# Altium schematic symbol library Adams Altium Library.SchLib: 126 symbols
Pins are listed as number, name and electrical type; pins without a type are passive.

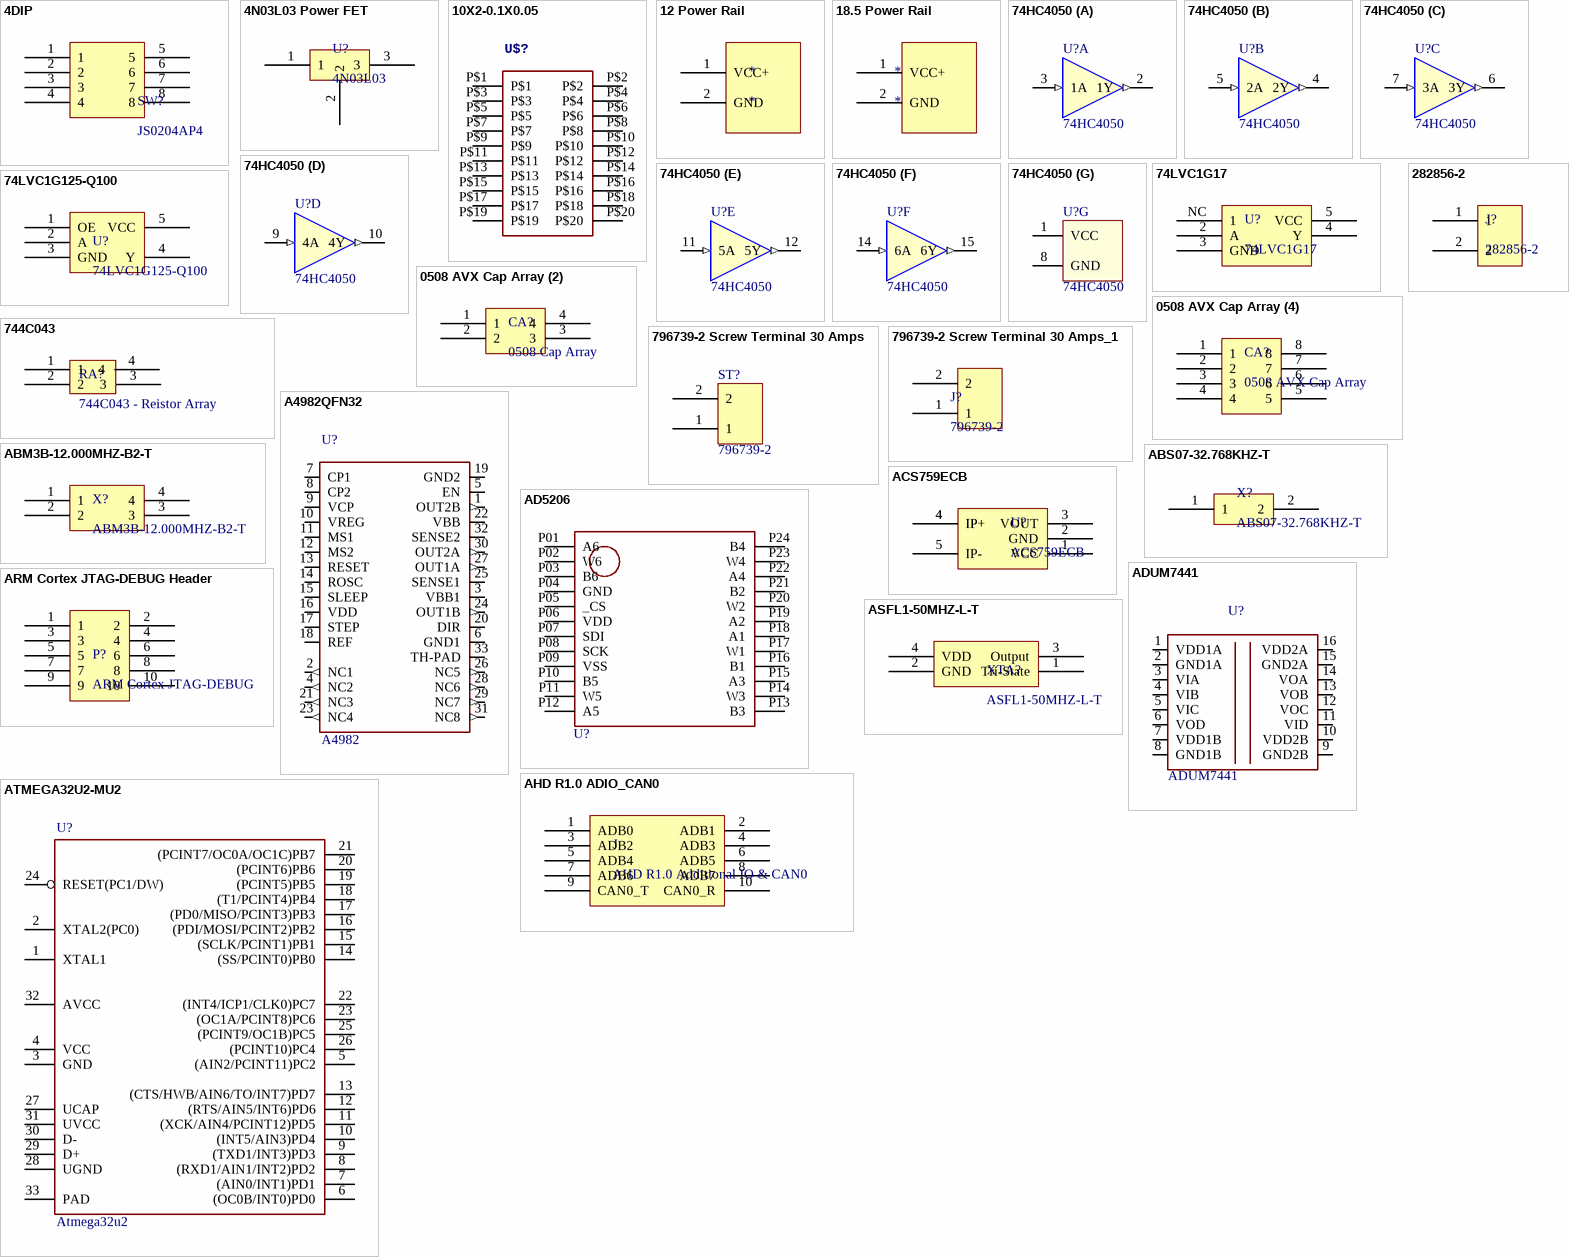
[diagram p0: symbols 4DIP to ATMEGA32U2-MU2]

## 4DIP
designator SW?, comment JS0204AP4
footprint JS0204AP4 (4DIP)
pins: 1, 2, 3, 4, 5, 6, 7, 8

## 4N03L03 Power FET
designator U?, comment 4N03L03
Power FET
footprint IPB04N03LA (Power-Transistor)
pins: 1, 2, 3

## 10X2-0.1X0.05
designator U$?
LastRevisionNote: ImportComponents; Published: 23-Apr-2014; Publisher: UltiMachine; LastRevisionDate: 23-Apr-2014
footprint 10X2-0.05X0.1
pins: P$1, P$2, P$3, P$4, P$5, P$6, P$7, P$8, P$9, P$10, P$11, P$12, P$13, P$14, P$15, P$16, P$17, P$18, P$19, P$20

## 12 Power Rail
designator *
footprint Power Rail 12
pins: 1 VCC+, 2 GND

## 18.5 Power Rail
designator *
footprint Power Rail Pad (Custom pad for WAVE power rails)
pins: 1 VCC+, 2 GND

## 74HC4050
designator U?
footprint TSOP65P640X120-16N (TSOP, 16-Leads, Body 5.00x4.40mm, Pitch 0.65mm, IPC Medium Density)
part A pins: 2 1Y (out), 3 1A (in)
part B pins: 4 2Y (out), 5 2A (in)
part C pins: 6 3Y (out), 7 3A (in)
part D pins: 9 4A (in), 10 4Y (out)
part E pins: 11 5A (in), 12 5Y (out)
part F pins: 14 6A (in), 15 6Y (out)
part G pins: 1 VCC (power), 8 GND (power)

## 74LVC1G17
designator U?
footprint 74LVC1G17
pins: 2 A, 3 GND, 4 Y, 5 VCC, NC 1

## 74LVC1G125-Q100
designator U?
footprint 74LVC1G125-Q100 (Line Driver Buffer)
pins: 1 OE, 2 A, 3 GND, 4 Y, 5 VCC

## 0508 AVX Cap Array (2)
designator CA?, comment 0508 Cap Array
footprint 0508 AVX (2) Cap Array (Capacator Array 0508)
pins: 1, 2, 3, 4

## 0508 AVX Cap Array (4)
designator CA?, comment 0508 AVX Cap Array
Capacitor Array
footprint 0508 Cap Array (4) (Capacitor Array)
pins: 1, 2, 3, 4, 5, 6, 7, 8

## 744C043
designator RA?, comment 744C043 - Reistor Array
Resistor Array
footprint 744C0403 (Resistor Array)
pins: 1, 2, 3, 4

## 282856-2
designator J?
Two pole screw terminal
footprint 282856-2 (Screw Terminal  two pole)
pins: 1, 2

## 796739-2 Screw Terminal 30 Amps
designator ST?, comment 796739-2
footprint 796739-2 (796739-2 30Amp Screw Terminal block)
pins: 1, 2

## 796739-2 Screw Terminal 30 Amps_1
designator J?, comment 796739-2
footprint 796739-2 (796739-2 30Amp Screw Terminal block)
pins: 1, 2

## A4982QFN32
designator U?, comment A4982
Stepper Driver - Fully Integrated, Control and Power Stage; Manufacturer: Allegro; ManufacturerPartNumber: A4982SETTR-T; LastRevisionNote: ImportComponents; Published: 23-Apr-2014; Publisher: UltiMachine; LastRevisionDate: 23-Apr-2014; ComponentLink1Description: Datasheet for A4982; ComponentLink1URL: http://www.allegromicro.com/en/Products/Part_Numbers/4982/4982.pdf; Supplier 1: Digi-Key; Supplier Part Number 1: 620-1340-2-ND
footprint QFN32TROUND
pins: 1 OUT2B (out), 2 NC1 (out), 3 VBB1 (power), 4 NC2 (out), 5 EN, 6 GND1 (power), 7 CP1, 8 CP2, 9 VCP, 10 VREG, 11 MS1, 12 MS2, 13 RESET, 14 ROSC, 15 SLEEP, 16 VDD (power), 17 STEP, 18 REF, 19 GND2 (power), 20 DIR, 21 NC3 (out), 22 VBB (power), 23 NC4 (out), 24 OUT1B (out), 25 SENSE1, 26 NC5 (out), 27 OUT1A (out), 28 NC6 (out), 29 NC7 (out), 30 OUT2A (out), 31 NC8 (out), 32 SENSE2, 33 TH-PAD (power)

## ABM3B-12.000MHZ-B2-T
designator X?
footprint ABM3B-12.000MHZ-B2-T (ABM3B-12.000MHZ-B2-T 12MHZ Crystam Oscillator)
pins: 1, 2, 3, 4

## ABS07-32.768KHZ-T
designator X?
ABS07-32.768KHZ-T RTC Crystal Oscillator
footprint ABS07-32.768KHZ-T (ABS07-32.768KHZ-T Crystal Oscillator)
pins: 1, 2

## ACS759ECB
designator U?
footprint ACS759ECB Round Holes (Current Sensor)
pins: 1 VCC, 2 GND, 3 VOUT, 4 IP+ hidden, 4 IP+, 5 IP-

## AD5206
designator U?  (value not drawn)
6ch Digipot; Manufacturer: Analog Devices; ManufacturerPartNumber: AD5206BRUZ10-RL7; LastRevisionNote: ImportComponents; Published: 23-Apr-2014; Publisher: UltiMachine; LastRevisionDate: 23-Apr-2014; ComponentLink1Description: Datasheet for AD5206; ComponentLink1URL: http://www.analog.com/static/imported-files/data_sheets/AD5204_5206.pdf
footprint TSSOP24
pins: P01 A6, P02 W6, P03 B6, P04 GND, P05 _CS, P06 VDD, P07 SDI, P08 SCK, P09 VSS, P10 B5, P11 W5, P12 A5, P13 B3, P14 W3, P15 A3, P16 B1, P17 W1, P18 A1, P19 A2, P20 W2, P21 B2, P22 A4, P23 W4, P24 B4

## ADUM7441
designator U?
4ch iCoupler; LastRevisionNote: ImportComponents; Published: 23-Apr-2014; Publisher: UltiMachine; LastRevisionDate: 23-Apr-2014
footprint QSOP16
pins: 1 VDD1A, 2 GND1A, 3 VIA, 4 VIB, 5 VIC, 6 VOD, 7 VDD1B, 8 GND1B, 9 GND2B, 10 VDD2B, 11 VID, 12 VOC, 13 VOB, 14 VOA, 15 GND2A, 16 VDD2A

## AHD R1.0 ADIO_CAN0
designator J, comment AHD R1.0 Additional IO & CAN0
AHD R1.0 Additional Digital IO & CAN0 Breakout
footprint HDR2X5
pins: 1 ADB0, 2 ADB1, 3 ADB2, 4 ADB3, 5 ADB4, 6 ADB5, 7 ADB6, 8 ADB7, 9 CAN0_T, 10 CAN0_R

## ARM Cortex JTAG-DEBUG Header
designator P?, comment ARM Cortex JTAG-DEBUG
footprint FTSH-105-XX-X-DV (1.27mm pitch, 10 pin, terminal strip; vertical, SMT)
pins: 1, 2, 3, 4, 5, 6, 7, 8, 9, 10

## ASFL1-50MHZ-L-T
designator XTA?
footprint ASFL1-50MHZ-L-T (Abracon ASFL1-50MHZ-L-T 50MHZ Crystal Oscillator)
pins: 1 Tri-State, 2 GND, 3 Output, 4 VDD

## ATMEGA32U2-MU2
designator U?, comment Atmega32u2
LastRevisionNote: ImportComponents; Published: 23-Apr-2014; Publisher: UltiMachine; LastRevisionDate: 23-Apr-2014; Supplier 1: Digi-Key; Supplier Part Number 1: ATMEGA32U2-MURTR-ND
footprint QFN32TROUND
pins: 1 XTAL1, 2 XTAL2(PC0), 3 GND (power), 4 VCC (power), 5 (AIN2/PCINT11)PC2, 6 (OC0B/INT0)PD0, 7 (AIN0/INT1)PD1, 8 (RXD1/AIN1/INT2)PD2, 9 (TXD1/INT3)PD3, 10 (INT5/AIN3)PD4, 11 (XCK/AIN4/PCINT12)PD5, 12 (RTS/AIN5/INT6)PD6, 13 (CTS/HWB/AIN6/TO/INT7)PD7, 14 (SS/PCINT0)PB0, 15 (SCLK/PCINT1)PB1, 16 (PDI/MOSI/PCINT2)PB2, 17 (PD0/MISO/PCINT3)PB3, 18 (T1/PCINT4)PB4, 19 (PCINT5)PB5, 20 (PCINT6)PB6, 21 (PCINT7/OC0A/OC1C)PB7, 22 (INT4/ICP1/CLK0)PC7, 23 (OC1A/PCINT8)PC6, 24 RESET(PC1/DW), 25 (PCINT9/OC1B)PC5, 26 (PCINT10)PC4, 27 UCAP, 28 UGND (power), 29 D+, 30 D-, 31 UVCC (power), 32 AVCC (power), 33 PAD (power)

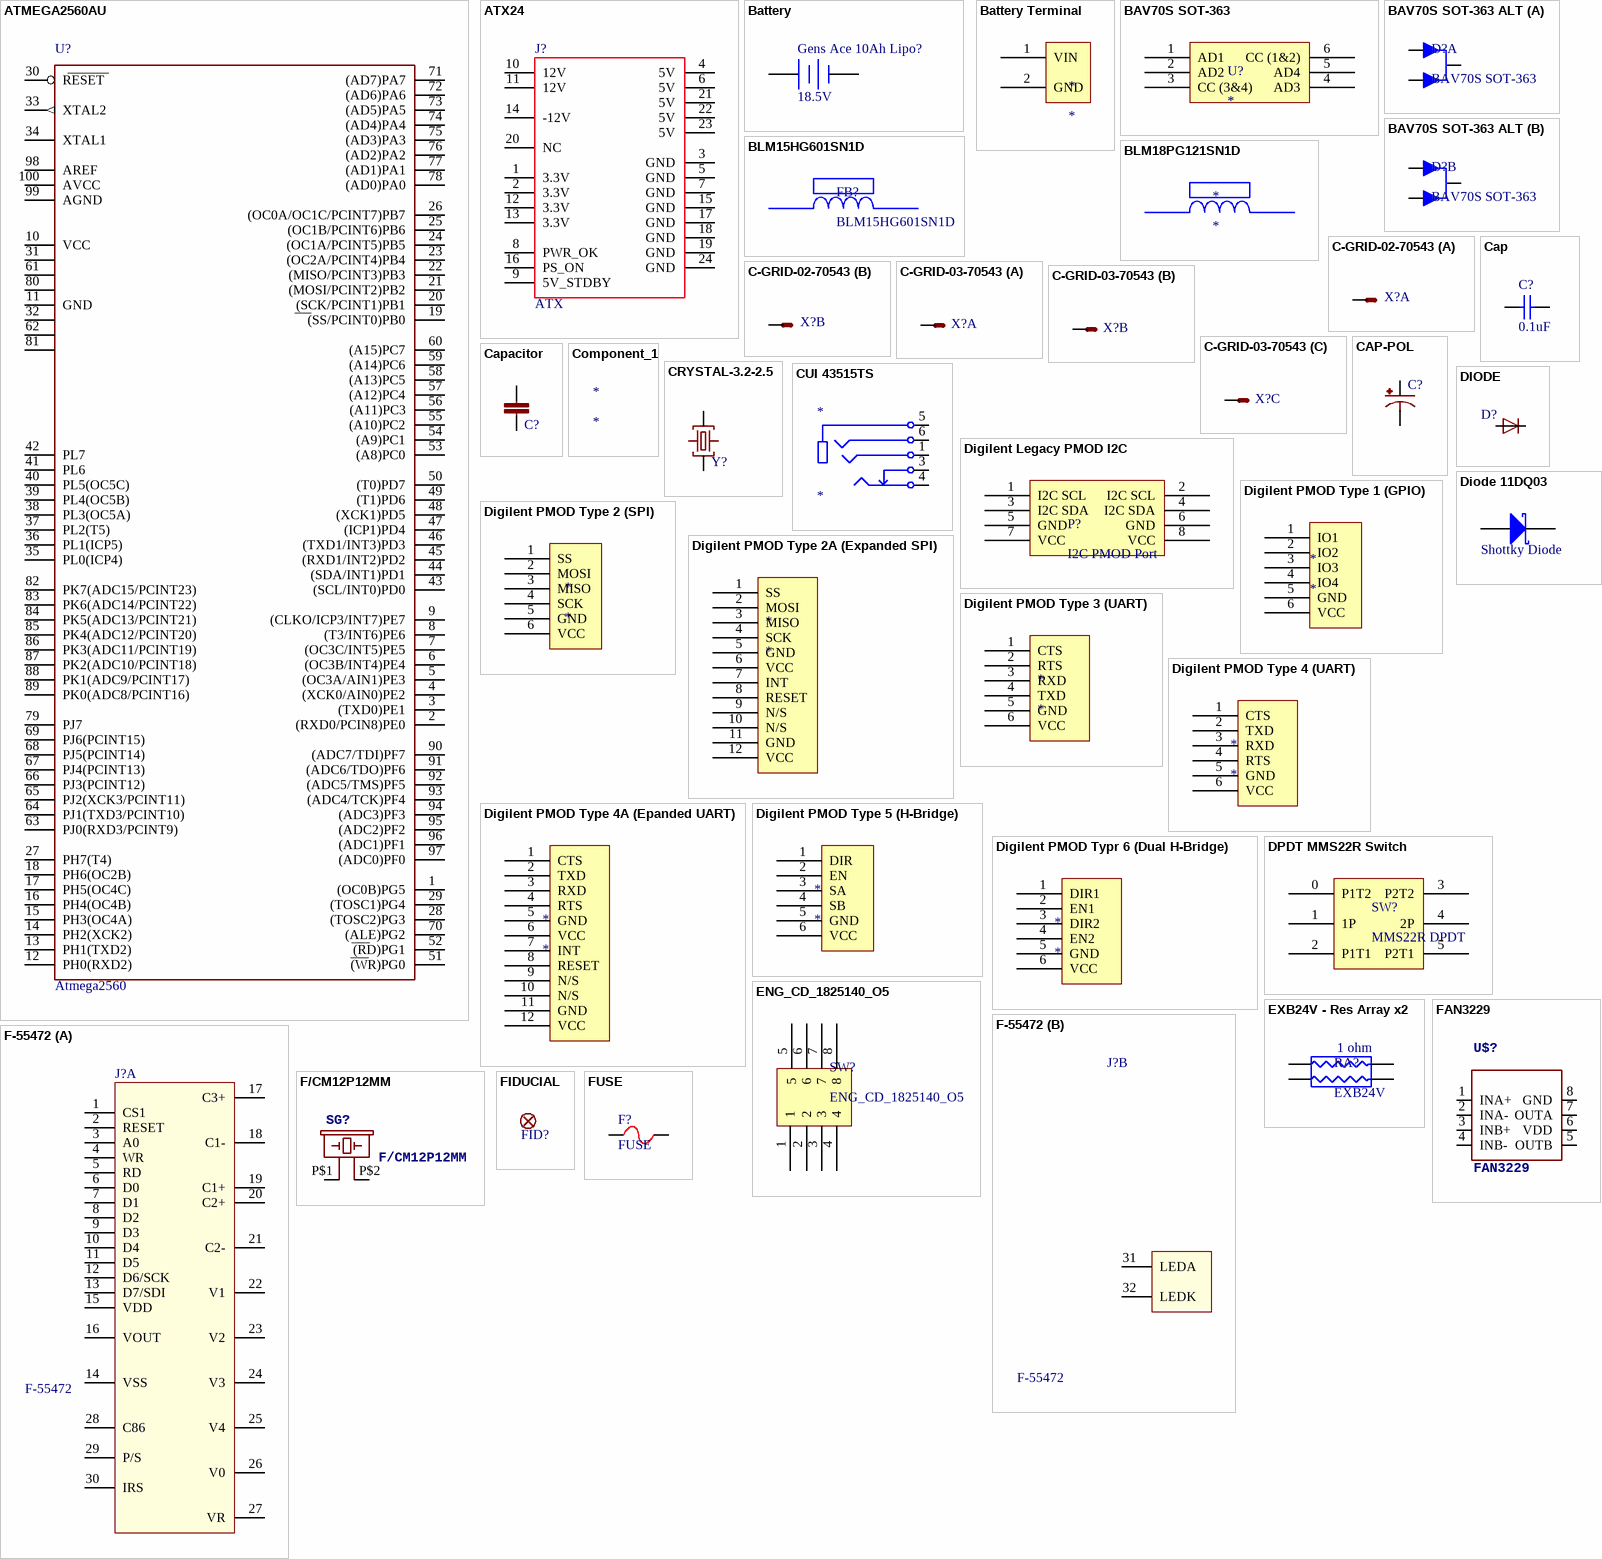
[diagram p1: symbols ATMEGA2560AU to FUSE]

## ATMEGA2560AU
designator U?, comment Atmega2560
LastRevisionNote: ImportComponents; Published: 23-Apr-2014; Publisher: UltiMachine; LastRevisionDate: 23-Apr-2014; Supplier 1: Digi-Key; Supplier Part Number 1: ATMEGA2560-16AURTR-ND
footprint TQFP100
pins: 1 (OC0B)PG5, 2 (RXD0/PCIN8)PE0, 3 (TXD0)PE1, 4 (XCK0/AIN0)PE2, 5 (OC3A/AIN1)PE3, 6 (OC3B/INT4)PE4, 7 (OC3C/INT5)PE5, 8 (T3/INT6)PE6, 9 (CLKO/ICP3/INT7)PE7, 10 VCC (power), 11 GND (power), 12 PH0(RXD2), 13 PH1(TXD2), 14 PH2(XCK2), 15 PH3(OC4A), 16 PH4(OC4B), 17 PH5(OC4C), 18 PH6(OC2B), 19 (SS/PCINT0)PB0, 20 (SCK/PCINT1)PB1, 21 (MOSI/PCINT2)PB2, 22 (MISO/PCINT3)PB3, 23 (OC2A/PCINT4)PB4, 24 (OC1A/PCINT5)PB5, 25 (OC1B/PCINT6)PB6, 26 (OC0A/OC1C/PCINT7)PB7, 27 PH7(T4), 28 (TOSC2)PG3, 29 (TOSC1)PG4, 30 RESET, 31 VCC1 (power), 32 GND1 (power), 33 XTAL2 (out), 34 XTAL1, 35 PL0(ICP4), 36 PL1(ICP5), 37 PL2(T5), 38 PL3(OC5A), 39 PL4(OC5B), 40 PL5(OC5C), 41 PL6, 42 PL7, 43 (SCL/INT0)PD0, 44 (SDA/INT1)PD1, 45 (RXD1/INT2)PD2, 46 (TXD1/INT3)PD3, 47 (ICP1)PD4, 48 (XCK1)PD5, 49 (T1)PD6, 50 (T0)PD7, 51 (WR)PG0, 52 (RD)PG1, 53 (A8)PC0, 54 (A9)PC1, 55 (A10)PC2, 56 (A11)PC3, 57 (A12)PC4, 58 (A13)PC5, 59 (A14)PC6, 60 (A15)PC7, 61 VCC2 (power), 62 GND2 (power), 63 PJ0(RXD3/PCINT9), 64 PJ1(TXD3/PCINT10), 65 PJ2(XCK3/PCINT11), 66 PJ3(PCINT12), 67 PJ4(PCINT13), 68 PJ5(PCINT14), 69 PJ6(PCINT15), 70 (ALE)PG2, 71 (AD7)PA7, 72 (AD6)PA6, 73 (AD5)PA5, 74 (AD4)PA4, 75 (AD3)PA3, 76 (AD2)PA2, 77 (AD1)PA1, 78 (AD0)PA0, 79 PJ7, 80 VCC3 (power), 81 GND3 (power), 82 PK7(ADC15/PCINT23), 83 PK6(ADC14/PCINT22), 84 PK5(ADC13/PCINT21), 85 PK4(ADC12/PCINT20), 86 PK3(ADC11/PCINT19), 87 PK2(ADC10/PCINT18), 88 PK1(ADC9/PCINT17), 89 PK0(ADC8/PCINT16), 90 (ADC7/TDI)PF7, 91 (ADC6/TDO)PF6, 92 (ADC5/TMS)PF5, 93 (ADC4/TCK)PF4, 94 (ADC3)PF3, 95 (ADC2)PF2, 96 (ADC1)PF1, 97 (ADC0)PF0, 98 AREF, 99 AGND (power), 100 AVCC (power)

## ATX24
designator J?, comment ATX
footprint ATX24
pins: 1 3.3V (power), 2 3.3V (power), 3 GND (power), 4 5V (power), 5 GND (power), 6 5V (power), 7 GND (power), 8 PWR_OK (power), 9 5V_STDBY (power), 10 12V (power), 11 12V (power), 12 3.3V (power), 13 3.3V (power), 14 -12V (power), 15 GND (power), 16 PS_ON (power), 17 GND (power), 18 GND (power), 19 GND (power), 20 NC (power), 21 5V (power), 22 5V (power), 23 5V (power), 24 GND (power)

## Battery
designator Gens Ace 10Ah Lipo?, comment 18.5V
Multicell Battery; Published: 24-Mar-1999; LatestRevisionDate: 17-Jul-2002; LatestRevisionNote: Re-released for DXP Platform.; PackageReference: BAT-2; Publisher: Altium Limited; PackageDescription: Battery; 2 Leads
footprint BAT-2 (Battery; 2 Leads)
pins: 1 +, 2 -

## Battery Terminal
designator *
footprint Battery Terminal (Custom batery Terminal)
pins: 1 VIN, 2 GND

## BAV70S SOT-363
designator U?
footprint BAV70S_SOT363 (SOT23, 6-Leads, Body 2.2x2.2mm (max), Pitch 0.65mm, IPC Medium Density)
pins: 1 AD1 "Anode (Diode 1)", 2 AD2 "Anode (Diode 2)", 3 CC (3&4) "Common Cathode 1 & 2", 4 AD3 "Anode Diode 3", 5 AD4 "Anode Diode 4", 6 CC (1&2) "Common Cathode 3&4"

## BAV70S SOT-363 ALT
designator D?, comment BAV70S SOT-363
footprint BAV70S_SOT363 (SOT23, 6-Leads, Body 2.2x2.2mm (max), Pitch 0.65mm, IPC Medium Density)
part A pins: 1 AD1 "Anode (Diode 1)", 2 AD2 "Anode (Diode 2)", 6 CC (1&2) "Common Cathode 3&4"
part B pins: 3 CC (3&4) "Common Cathode 1 & 2", 4 AD3 "Anode Diode 3", 5 AD4 "Anode Diode 4"

## BLM15HG601SN1D
designator FB?
footprint BLM18PG121SN1D (Chip Inductor, 2-Leads, Body 1.0x0.5mm, IPC Medium Density)
pins: 1, 2

## BLM18PG121SN1D
designator *
footprint BLM18PG121SN1D (Chip Inductor, 2-Leads, Body 1.0x0.5mm, IPC Medium Density)
pins: 1, 2

## C-GRID-02-70543
designator X?
Connector 2pos; LastRevisionNote: ImportComponents; Published: 23-Apr-2014; Publisher: UltiMachine; LastRevisionDate: 23-Apr-2014
footprint 70543-02
part A pins: 2 S
part B pins: 1 S

## C-GRID-03-70543
designator X?
Connector 2pos 2.54mm locking; LastRevisionNote: ImportComponents; Published: 23-Apr-2014; Publisher: UltiMachine; LastRevisionDate: 23-Apr-2014
footprint 70543-03
part A pins: 1 S
part B pins: 2 S
part C pins: 3 S

## Cap
designator C?  value 0.1uF
Capacitor; Published: 8-Jun-2000; LatestRevisionDate: 17-Jul-2002; LatestRevisionNote: Re-released for DXP Platform.; PackageReference: RAD-0.3; Publisher: Altium Limited; PackageDescription: Radial Cap, Thru-Hole; 2 Leads; 0.3 in Pin Spacing
footprint RAD-0.3 (Radial Cap, Thru-Hole; 2 Leads; 0.3 in Pin Spacing)
simulation model CAP (Capacitor)
signal-integrity model Cap
pins: 1, 2

## CAP-POL
designator C?
Capacitor Polarized; LastRevisionNote: ImportComponents; Published: 23-Apr-2014; Publisher: UltiMachine; LastRevisionDate: 23-Apr-2014
footprint C12,5-5
footprint E3,5-8
footprint C1206Tantalum (Chip Capacitor, 2-Leads, Body 3.20x1.60mm, IPC Medium Density)
pins: 1 +, 2 -

## Capacitor
designator C?
Capacitor Non Polarized; LastRevisionNote: ImportComponents; Published: 23-Apr-2014; Publisher: UltiMachine; LastRevisionDate: 23-Apr-2014
footprint C0402
footprint C0603
footprint C0805
footprint C1210K
signal-integrity model Model Name (Model Description)
simulation model Model Name (Model Description)
footprint C2220K
pins: 1, 2

## Component_1
designator *

## CRYSTAL-3.2-2.5
designator Y?
LastRevisionNote: ImportComponents; Published: 23-Apr-2014; Publisher: UltiMachine; LastRevisionDate: 23-Apr-2014
footprint CRYSTAL-3.2-2.5
pins: 1 C1, 2 GND, 3 C2, 4 GND

## CUI 43515TS
designator *
footprint CUI SJ-43515TS
pins: 1 R1, 3 TS, 4 TIP, 5 SLEEVE, 6 R2

## Digilent Legacy PMOD I2C
designator P?, comment I2C PMOD Port
pins: 1 I2C SCL, 2 I2C SCL, 3 I2C SDA, 4 I2C SDA, 5 GND, 6 GND, 7 VCC, 8 VCC

## Digilent PMOD Type 1 (GPIO)
designator *
footprint 1X6 2.54mm PMOD - Peripheral & HOST
pins: 1 IO1, 2 IO2, 3 IO3, 4 IO4, 5 GND, 6 VCC

## Digilent PMOD Type 2 (SPI)
designator *
footprint 1X6 2.54mm PMOD - Peripheral & HOST
pins: 1 SS, 2 MOSI, 3 MISO, 4 SCK, 5 GND, 6 VCC

## Digilent PMOD Type 2A (Expanded SPI)
designator *
footprint 2X6 2.54mm PMOD - HOST
footprint 2X6 2.54mm PMOD - Peripheral
pins: 1 SS, 2 MOSI, 3 MISO, 4 SCK, 5 GND, 6 VCC, 7 INT, 8 RESET, 9 N/S, 10 N/S, 11 GND, 12 VCC

## Digilent PMOD Type 3 (UART)
designator *
footprint 1X6 2.54mm PMOD - Peripheral & HOST
pins: 1 CTS, 2 RTS, 3 RXD, 4 TXD, 5 GND, 6 VCC

## Digilent PMOD Type 4 (UART)
designator *
footprint 1X6 2.54mm PMOD - Peripheral & HOST
pins: 1 CTS, 2 TXD, 3 RXD, 4 RTS, 5 GND, 6 VCC

## Digilent PMOD Type 4A (Epanded UART)
designator *
footprint 2X6 2.54mm PMOD - HOST
footprint 2X6 2.54mm PMOD - Peripheral
pins: 1 CTS, 2 TXD, 3 RXD, 4 RTS, 5 GND, 6 VCC, 7 INT, 8 RESET, 9 N/S, 10 N/S, 11 GND, 12 VCC

## Digilent PMOD Type 5 (H-Bridge)
designator *
footprint 1X6 2.54mm PMOD - Peripheral & HOST
pins: 1 DIR, 2 EN, 3 SA, 4 SB, 5 GND, 6 VCC

## Digilent PMOD Typr 6 (Dual H-Bridge)
designator *
footprint 1X6 2.54mm PMOD - Peripheral & HOST
pins: 1 DIR1, 2 EN1, 3 DIR2, 4 EN2, 5 GND, 6 VCC

## DIODE
designator D?
DIODE; LastRevisionNote: ImportComponents; Published: 23-Apr-2014; Publisher: UltiMachine; LastRevisionDate: 23-Apr-2014
footprint DO-214AB
footprint SOD523
pins: A, C

## Diode 11DQ03
designator D?, comment Shottky Diode
Schottky Rectifier; Published: 8-Jun-2000; LatestRevisionDate: 17-Jul-2002; LatestRevisionNote: Re-released for DXP Platform.; DatasheetVersion: Dec-1997; PackageReference: DO-204AL; Publisher: Altium Limited; PackageDescription: Diode, Axial; Body 5.2 x 2.7 mm (LxDia. max), Lead Dia. 0.86 mm (max); Code_JEDEC: DO-204-AL; ComponentLink1Description: Manufacturer Link; ComponentLink1URL: http://www.irf.com/; ComponentLink2Description: Datasheet; ComponentLink2URL: http://www.irf.com/product-info/datasheets/data/11dq03.pdf
footprint DO-204AL (Diode, Axial; Body 5.2 x 2.7 mm (LxDia. max), Lead Dia. 0.86 mm (max))
simulation model 11DQ03 (DIODE)
pins: 1 A, 2 K

## DPDT MMS22R Switch
designator SW?, comment MMS22R DPDT
Double Pole Double Throw
footprint DPDT Switch (MMS22R)
pins: 0 P1T2, 1 1P, 2 P1T1, 3 P2T2, 4 2P, 5 P2T1

## ENG_CD_1825140_O5
designator SW?
4 Dip Siwtch
footprint ENG_CD_1825140_O5 (4 DIP)
pins: 1, 2, 3, 4, 5, 6, 7, 8

## EXB24V - Res Array x2
designator RA?, comment EXB24V  value 1 ohm
footprint EXB24V - Res Array x2 (Panasonic Resistor Array)
pins: 1, 2, 3, 4

## F-55472
designator J?
part A pins: 1 CS1 (power), 2 RESET (power), 3 A0 (power), 4 WR (power), 5 RD (power), 6 D0 (power), 7 D1 (power), 8 D2 (power), 9 D3 (power), 10 D4 (power), 11 D5 (power), 12 D6/SCK (power), 13 D7/SDI (power), 14 VSS (power), 15 VDD (power), 16 VOUT (power), 17 C3+ (power), 18 C1- (power), 19 C1+ (power), 20 C2+ (power), 21 C2- (power), 22 V1 (power), 23 V2 (power), 24 V3 (power), 25 V4 (power), 26 V0 (power), 27 VR (power), 28 C86 (power), 29 P/S (power), 30 IRS (power)
part B pins: 31 LEDA (power), 32 LEDK (power)

## F/CM12P12MM
designator SG?
BUZZER; LastRevisionNote: ImportComponents; Published: 23-Apr-2014; Publisher: UltiMachine; LastRevisionDate: 23-Apr-2014
footprint BUZZER-12MM
pins: P$1 1, P$2 2

## FAN3229
designator U$?
LastRevisionNote: ImportComponents; Published: 23-Apr-2014; Publisher: UltiMachine; LastRevisionDate: 23-Apr-2014
footprint SOIC8
pins: 1 INA+, 2 INA-, 3 INB+, 4 INB-, 5 OUTB, 6 VDD, 7 OUTA, 8 GND

## FIDUCIAL
designator FID?
Fiducial; LastRevisionNote: ImportComponents; Published: 23-Apr-2014; Publisher: UltiMachine; LastRevisionDate: 23-Apr-2014
footprint FIDUCIAL-1X2

## FUSE
designator F?
LastRevisionNote: ImportComponents; Published: 23-Apr-2014; Publisher: UltiMachine; LastRevisionDate: 23-Apr-2014
footprint 3522-2
footprint F1210_M (Bournes PTC Fuse)
pins: 1, 2

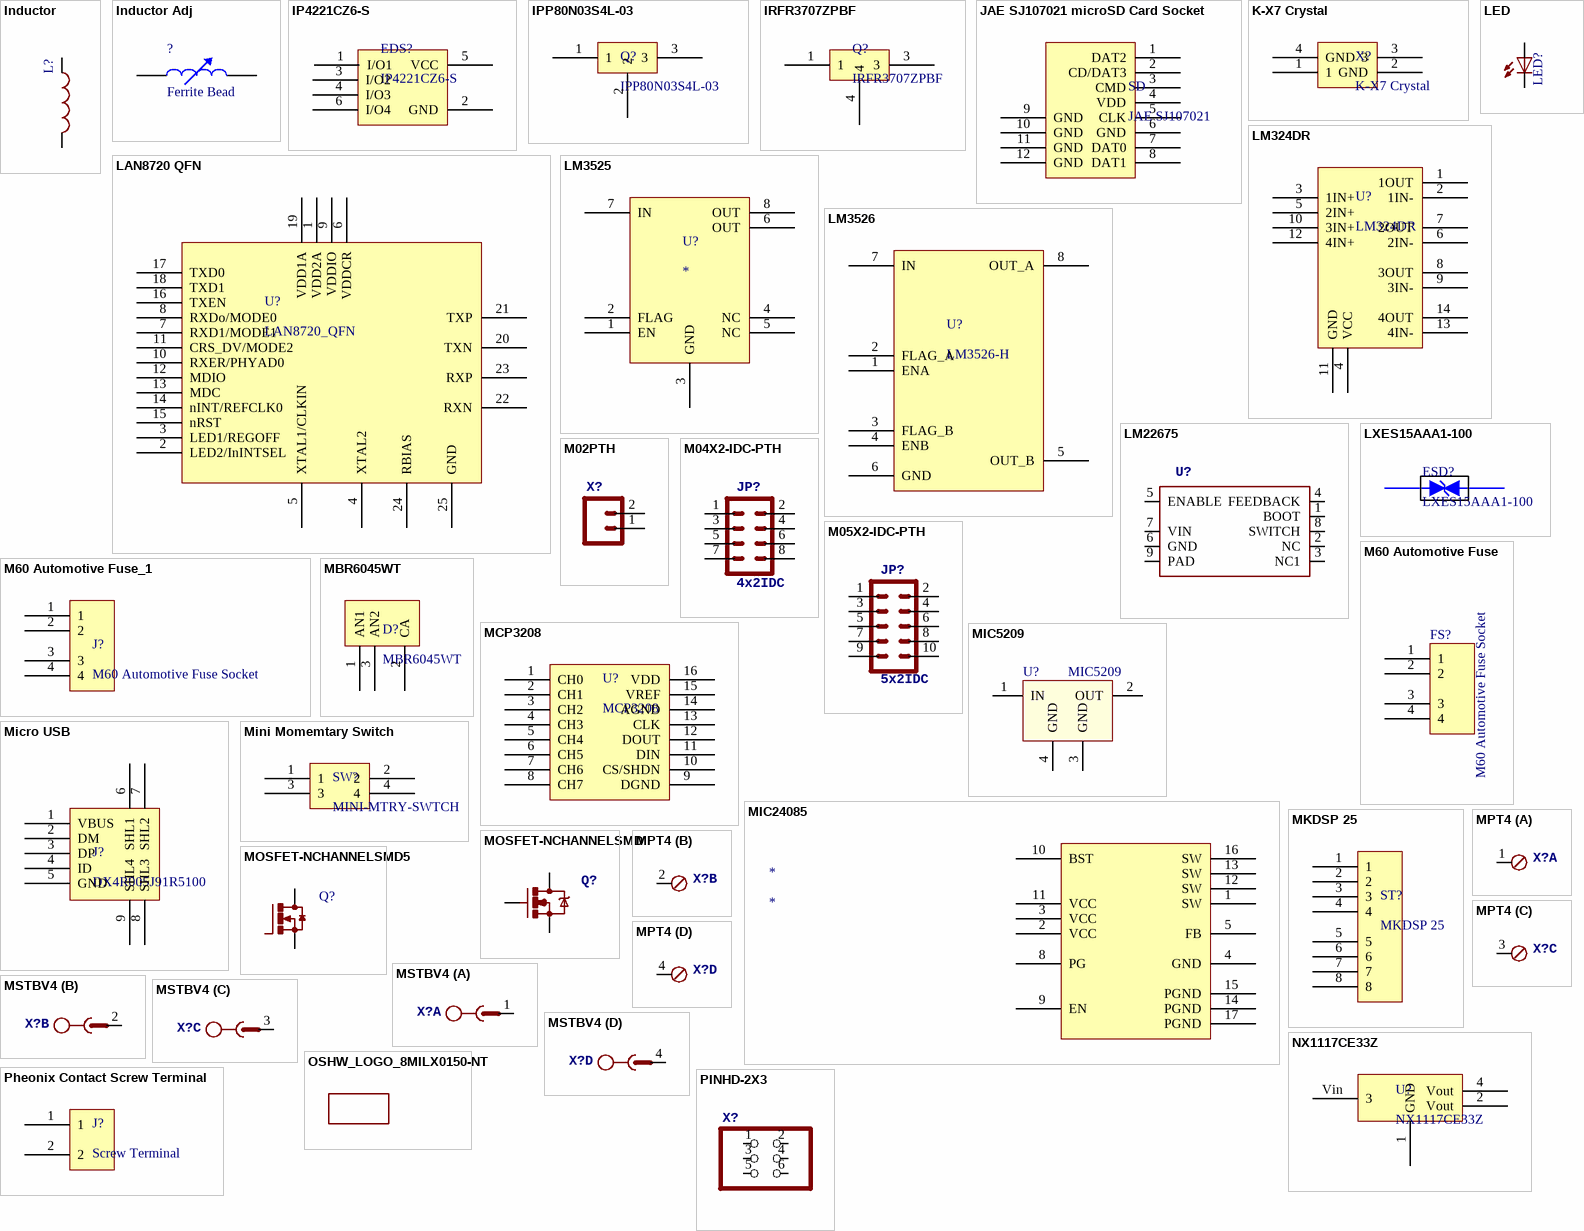
[diagram p2: symbols Inductor to PINHD-2X3]

## Inductor
designator L?
Inductor; LastRevisionNote: ImportComponents; Published: 23-Apr-2014; Publisher: UltiMachine; LastRevisionDate: 23-Apr-2014
footprint C0805
footprint NR8040
pins: 1, 2

## Inductor Adj
designator ?, comment Ferrite Bead
Adjustable Inductor; Set Position: 0.5; Published: 24-Mar-1999; LatestRevisionDate: 17-Jul-2002; LatestRevisionNote: Re-released for DXP Platform.; PackageReference: AXIAL-0.8; Publisher: Altium Limited; PackageDescription: Axial Device, Thru-Hole; 2 Leads; 0.8 in Pin Spacing
footprint AXIAL-0.8 (Axial Device, Thru-Hole; 2 Leads; 0.8 in Pin Spacing)
simulation model INDUCTOR (Inductor)
signal-integrity model Inductor Adj
pins: 1, 2

## IP4221CZ6-S
designator EDS?
footprint IP4221CZ6-S (ESD Protection IC)
pins: 1 I/O1, 2 GND, 3 I/O2, 4 I/O3, 5 VCC, 6 I/O4

## IPP80N03S4L-03
designator Q?
Power FET TO220 Package
footprint TO-220 (TO, Thru-Hole, Vertical, Heatsink Mounted; 3 In-Line Leads; Pitch 2.54 mm)
pins: 1 "Gate", 2 "Drain", 3 "Source"

## IRFR3707ZPBF
designator Q?
Power FET
footprint IRFR3707ZPBF (Power FET)
pins: 1, 3, 4

## JAE SJ107021 microSD Card Socket
designator SD, comment JAE SJ107021
footprint JAE SJ107021 (MicroSD card socket)
pins: 1 DAT2, 2 CD/DAT3, 3 CMD, 4 VDD, 5 CLK, 6 GND, 7 DAT0, 8 DAT1, 9 GND, 10 GND, 11 GND, 12 GND

## K-X7 Crystal
designator X?
Crystal Oscillator; Value: ?Hz
footprint KX-7 (Crystal Oscillator)
pins: 1, 2 GND, 3, 4 GND

## LAN8720 QFN
designator U?, comment LAN8720_QFN
footprint LAN8720_QFN (QFN, 24-Leads, Body 4.1x4.1mm (max), Pitch 0.50mm, IPC Medium Density)
pins: 1 VDD2A, 2 LED2/InINTSEL, 3 LED1/REGOFF, 4 XTAL2, 5 XTAL1/CLKIN, 6 VDDCR, 7 RXD1/MODE1, 8 RXDo/MODE0, 9 VDDIO, 10 RXER/PHYAD0, 11 CRS_DV/MODE2, 12 MDIO, 13 MDC, 14 nINT/REFCLK0, 15 nRST, 16 TXEN, 17 TXD0, 18 TXD1, 19 VDD1A, 20 TXN, 21 TXP, 22 RXN, 23 RXP, 24 RBIAS, 25 GND

## LED
designator LED?
LED; LastRevisionNote: ImportComponents; Published: 23-Apr-2014; Publisher: UltiMachine; LastRevisionDate: 23-Apr-2014
footprint CHIP-LED0805
pins: A, C

## LM324DR
designator U?
footprint LM324DR - duplicate (LM324DR OPAMP)
pins: 1 1OUT, 2 1IN-, 3 1IN+, 4 VCC, 5 2IN+, 6 2IN-, 7 2OUT, 8 3OUT, 9 3IN-, 10 3IN+, 11 GND, 12 4IN+, 13 4IN-, 14 4OUT

## LM3525
designator U?
LM3525
footprint LM3525
pins: 1 EN, 2 FLAG, 3 GND, 4 NC, 5 NC, 6 OUT, 7 IN, 8 OUT

## LM3526
designator U?, comment LM3526-H
pins: 1 ENA, 2 FLAG_A, 3 FLAG_B, 4 ENB, 5 OUT_B, 6 GND, 7 IN, 8 OUT_A

## LM22675
designator U?
LastRevisionNote: ImportComponents; Published: 23-Apr-2014; Publisher: UltiMachine; LastRevisionDate: 23-Apr-2014
footprint SOIC127P600X170-9N
pins: 1 BOOT, 2 NC, 3 NC1, 4 FEEDBACK, 5 ENABLE, 6 GND, 7 VIN (power), 8 SWITCH, 9 PAD

## LXES15AAA1-100
designator ESD?
Inline ESD protection Diode
footprint LXES ESD Device
pins: A, K

## M02PTH
designator X?
Connector 2x1 2.54mm PTH; LastRevisionNote: ImportComponents; Published: 23-Apr-2014; Publisher: UltiMachine; LastRevisionDate: 23-Apr-2014
footprint 1X02
pins: 1, 2

## M04X2-IDC-PTH
designator JP?, comment 4x2IDC
Connector 4x2 2.54mm PTH; LastRevisionNote: ImportComponents; Published: 23-Apr-2014; Publisher: UltiMachine; LastRevisionDate: 23-Apr-2014
footprint 2X4-SHROUDED
pins: 1, 2, 3, 4, 5, 6, 7, 8

## M05X2-IDC-PTH
designator JP?, comment 5x2IDC
Connector 5x2 2.54mm PTH; LastRevisionNote: ImportComponents; Published: 23-Apr-2014; Publisher: UltiMachine; LastRevisionDate: 23-Apr-2014
footprint 2X5-SHROUDED
pins: 1, 2, 3, 4, 5, 6, 7, 8, 9, 10

## M60 Automotive Fuse
designator FS?, comment M60 Automotive Fuse Socket
Automotive Fuse Socket
footprint M60 (Automotive Fuse Socket)
pins: 1, 2, 3, 4

## M60 Automotive Fuse_1
designator J?, comment M60 Automotive Fuse Socket
Automotive Fuse Socket
footprint M60 (Automotive Fuse Socket)
pins: 1, 2, 3, 4

## MBR6045WT
designator D?
footprint MBR6045WT (Rectifier Diode)
pins: 1 AN1, 2 CA, 3 AN2

## MCP3208
designator U?
footprint MCP3208 - duplicate (MCP3208 8 Channel ADC)
pins: 1 CH0, 2 CH1, 3 CH2, 4 CH3, 5 CH4, 6 CH5, 7 CH6, 8 CH7, 9 DGND, 10 CS/SHDN, 11 DIN, 12 DOUT, 13 CLK, 14 AGND, 15 VREF, 16 VDD

## MIC5209
designator U?
footprint SOT230P700X190-4N (SOT223, 4-Leads, Body 6.50x7.00mm (avg), Pitch 2.30mm, IPC Medium Density)
pins: 1 IN (power), 2 OUT (power), 3 GND (power), 4 GND (power)

## MIC24085
designator *
footprint MIC24085-AYML (QFN, 16-Leads, Body 3.25x3.25mm, Pitch 0.50mm, Thermal Pad 1.73x1.73mm, IPC Medium Density)
pins: 1 SW, 2 VCC, 3 VCC, 4 GND, 5 FB, 6 NC hidden, 7 NC hidden, 8 PG, 9 EN, 10 BST, 11 VCC, 12 SW, 13 SW, 14 PGND, 15 PGND, 16 SW, 17 PGND

## Micro USB
designator J?, comment DX4R005J91R5100
Micro USB Jack B
footprint micro USB
pins: 1 VBUS, 2 DM, 3 DP, 4 ID, 5 GND, 6 SHL1, 7 SHL2, 8 SHL3, 9 SHL4

## Mini Momemtary Switch
designator SW?, comment MINI-MTRY-SWTCH
footprint Momentary Switch (Momentary switch for reset)
pins: 1, 2, 3, 4

## MKDSP 25
designator ST?
High Current Screw Terminal
footprint MKDSP 25 (MKDSP 25 High Current Screw Terminal)
pins: 1, 2, 3, 4, 5, 6, 7, 8

## MOSFET-NCHANNELSMD
designator Q?
Mosfet N-Channel 3pin; LastRevisionNote: ImportComponents; Published: 23-Apr-2014; Publisher: UltiMachine; LastRevisionDate: 23-Apr-2014
footprint SOT23-3
pins: 1 G, 2 S, 3 D

## MOSFET-NCHANNELSMD5
designator Q?
Mosfet N-channel 5pad; LastRevisionNote: ImportComponents; Published: 23-Apr-2014; Publisher: UltiMachine; LastRevisionDate: 23-Apr-2014
footprint SOT669
pins: 1 S, 2 S, 3 S, 4 G, MB D

## MPT4
designator X?
PHOENIX CONNECTOR; LastRevisionNote: ImportComponents; Published: 23-Apr-2014; Publisher: UltiMachine; LastRevisionDate: 23-Apr-2014
footprint 4POL254
part A pins: 1
part B pins: 2 1
part C pins: 3 1
part D pins: 4 1

## MSTBV4
designator X?  (value not drawn)
PHOENIX; LastRevisionNote: ImportComponents; Published: 23-Apr-2014; Publisher: UltiMachine; LastRevisionDate: 23-Apr-2014
footprint MSTBV4
part A pins: 1
part B pins: 2 1
part C pins: 3 1
part D pins: 4 1

## NX1117CE33Z
designator U?
3.3v Linear Regulator
footprint NX1117CE33Z (3.3v linear regulator)
pins: 1 GND, 2 Vout, 4 Vout, Vin 3

## OSHW_LOGO_8MILX0150-NT
designator LOGO?
LastRevisionNote: ImportComponents; Published: 23-Apr-2014; Publisher: UltiMachine; LastRevisionDate: 23-Apr-2014
footprint OSHW_8X150_NOTEXT

## Pheonix Contact Screw Terminal
designator J?, comment Screw Terminal
Pheonix Contact Screw Terminal
footprint Pheonix Contact Screw Terminal
pins: 1, 2

## PINHD-2X3
designator X?
PIN HEADER; LastRevisionNote: ImportComponents; Published: 23-Apr-2014; Publisher: UltiMachine; LastRevisionDate: 23-Apr-2014
footprint 2X03
pins: 1, 2, 3, 4, 5, 6

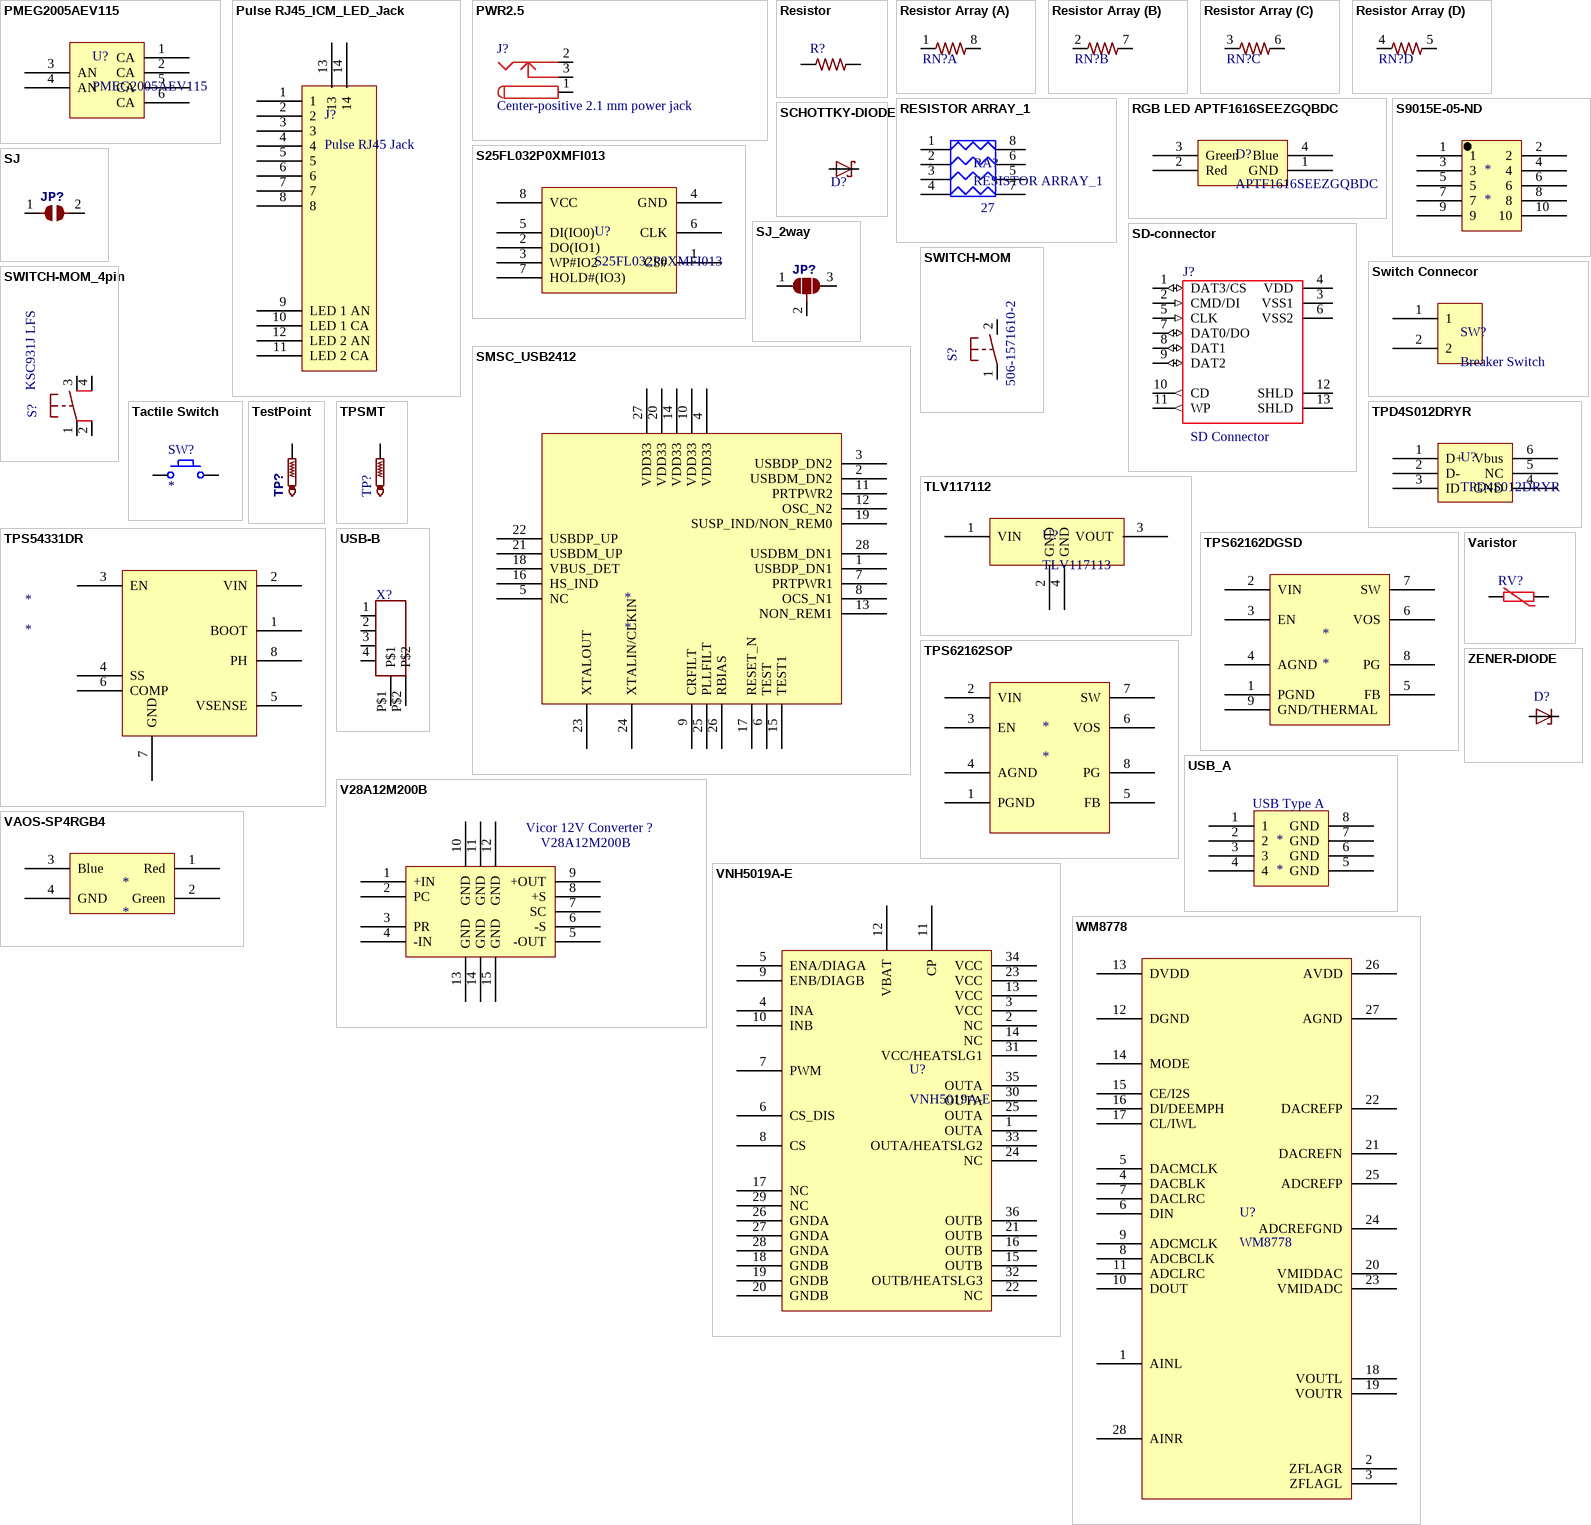
[diagram p3: symbols PMEG2005AEV115 to ZENER-DIODE]

## PMEG2005AEV115
designator U?
pins: 1 CA, 2 CA, 3 AN, 4 AN, 5 CA, 6 CA

## Pulse RJ45_ICM_LED_Jack
designator J?, comment Pulse RJ45 Jack
footprint J0006D21BNL (RJ45 Integrated Magnetics and LEDs)
pins: 1, 2, 3, 4, 5, 6, 7, 8, 9 LED 1 AN, 10 LED 1 CA, 11 LED 2 CA, 12 LED 2 AN, 13, 14

## PWR2.5
designator J?, comment Center-positive 2.1 mm power jack
Power jack; Published: 17-Dec-2003; DatasheetDocument: 09-May-2002; Publisher: Altium Limited; ComponentLink1Description: Manufacturer Link; ComponentLink1URL: http://domino.kycon.com/internet/Products.html
signal-integrity model Connector
footprint PJ-102AH (Center positive 2.1 mm power jack)
pins: 1 (power), 2 (power), 3 (power)

## Resistor
designator R?
Resistor; LastRevisionNote: ImportComponents; Published: 23-Apr-2014; Publisher: UltiMachine; LastRevisionDate: 23-Apr-2014
footprint R0402
footprint R0603
footprint R1206
signal-integrity model Model Name (Model Description)
simulation model Model Name (Model Description)
pins: 1, 2

## Resistor Array
designator RN?
Resistor Array 4; Manufacturer: Bourns; ManufacturerPartNumber: CAY16-103J4LF; LastRevisionNote: ImportComponents; ComponentLink1URL: http://www.bourns.com/data/global/pdfs/CATCAY.pdf; ComponentLink1Description: Datasheet for CAY16; Published: 23-Apr-2014; Publisher: UltiMachine; LastRevisionDate: 23-Apr-2014
footprint CAY16
part A pins: 1, 8 2
part B pins: 2 1, 7 2
part C pins: 3 1, 6 2
part D pins: 4 1, 5 2

## RESISTOR ARRAY_1
designator RA?  value 27
Resistor array
footprint 742C083 (Resistor array)
pins: 1, 2, 3, 4, 5, 6, 7, 8

## RGB LED APTF1616SEEZGQBDC
designator D?, comment APTF1616SEEZGQBDC
RGB LED
footprint RGB LED APTF1616SEEZGQBDC (RGB LED)
pins: 1 GND, 2 Red, 3 Green, 4 Blue

## S25FL032P0XMFI013
designator U?
footprint S25FL032P0XMFI013 (SOP, 8-Leads, Body 5.3x5.3mm (max), Pitch 1.27mm, IPC Medium Density)
pins: 1 CS#, 2 DO(IO1), 3 WP#IO2, 4 GND, 5 DI(IO0), 6 CLK, 7 HOLD#(IO3), 8 VCC

## S9015E-05-ND
designator *
footprint S9015E-05-ND (10 Pin Cortex JTAG Debug Header)
pins: 1, 2, 3, 4, 5, 6, 7, 8, 9, 10

## SCHOTTKY-DIODE
designator D?
Schottky Diode; LastRevisionNote: ImportComponents; Published: 23-Apr-2014; Publisher: UltiMachine; LastRevisionDate: 23-Apr-2014
footprint SMA-SM
pins: A, C

## SD-connector
designator J?, comment SD Connector
footprint SD-Connector
pins: 1 DAT3/CS (io), 2 CMD/DI (in), 3 VSS1 (power), 4 VDD (power), 5 CLK (in), 6 VSS2 (power), 7 DAT0/DO (io), 8 DAT1 (io), 9 DAT2 (io), 10 CD (out), 11 WP (out), 12 SHLD (power), 13 SHLD (power)

## SJ
designator JP?
SMD solder jumper; LastRevisionNote: ImportComponents; Published: 23-Apr-2014; Publisher: UltiMachine; LastRevisionDate: 23-Apr-2014
footprint SJ
pins: 1, 2

## SJ_2way
designator JP?
SMD solder jumper; LastRevisionNote: ImportComponents; Published: 23-Apr-2014; Publisher: UltiMachine; LastRevisionDate: 23-Apr-2014
footprint SJ-2way
pins: 1, 2, 3

## SMSC_USB2412
designator *
footprint SMSC_USB2412 (QFN, 28-Leads, Body 5.1x5.1mm (max), Pitch 0.50mm, IPC Medium Density)
pins: 1 USBDP_DN1, 2 USBDM_DN2, 3 USBDP_DN2, 4 VDD33, 5 NC, 6 TEST, 7 PRTPWR1, 8 OCS_N1, 9 CRFILT, 10 VDD33, 11 PRTPWR2, 12 OSC_N2, 13 NON_REM1, 14 VDD33, 15 TEST1, 16 HS_IND, 17 RESET_N, 18 VBUS_DET, 19 SUSP_IND/NON_REM0, 20 VDD33, 21 USBDM_UP, 22 USBDP_UP, 23 XTALOUT, 24 XTALIN/CLKIN, 25 PLLFILT, 26 RBIAS, 27 VDD33, 28 USDBM_DN1

## Switch Connecor
designator SW?, comment Breaker Switch
Breaker Switch Connector
footprint Breaker Switch Connection
pins: 1, 2

## SWITCH-MOM
designator S?  Supplier Part Number 1: 506-1571610-2
Momentary Switch Single Pole Single Throw; Manufacturer: Omron; ManufacturerPartNumber: 1571610-2; Manufacturer: TE; LastRevisionNote: Import; ComponentLink1URL: http://www.te.com/commerce/DocumentDelivery/DDEController?Action=srchrtrv&DocNm=1571610&DocType=Customer+Drawing&DocLang=English; ComponentLink1Description: Datasheet for B3F-31XX; Published: 23-Apr-2014; Publisher: UltiMachine; LastRevisionDate: 23-Apr-2014; Supplier 1: Mouser
footprint B3F-31XX
pins: 1 P, 2 S

## SWITCH-MOM_4pin
designator S?, comment KSC931J LFS
Momentary Switch Single Pole Single Throw; Published: 23-Apr-2014; Publisher: UltiMachine; ManufacturerPartNumber: KSC931J LFS
footprint SWITCH-KSC-Jbend
pins: 1 P, 2 P, 3, 4

## Tactile Switch
designator SW?
footprint tactile switch
footprint ITT Cannon tactile switch
footprint Mountain Switch TS6324T1607
footprint Mountain TS6211
footprint TL3301
footprint KSS221G
footprint KFC-005S-03 Tact Switch
footprint TL1015 Micro Tact Switch
footprint Mountain Switch TS6324T1607
pins: 1, 2

## TestPoint
designator TP?
Test Point; LastRevisionNote: ImportComponents; Published: 23-Apr-2014; Publisher: UltiMachine; LastRevisionDate: 23-Apr-2014
footprint TP1-27TH
footprint TP1-27
pins: TP

## TLV117112
designator U?, comment TLV117113
Linear Regulator
footprint TLV117112 (SOT223, 4-Leads, Body 6.7x7.3mm (max), Pitch 2.30mm, IPC Medium Density)
pins: 1 VIN, 2 GND, 3 VOUT, 4 GND

## TPD4S012DRYR
designator U?
TPD4S012DRYR USB ESD Protection
pins: 1 D+, 2 D-, 3 ID, 4 GND, 5 NC, 6 Vbus

## TPS54331DR
designator *
pins: 1 BOOT, 2 VIN, 3 EN, 4 SS, 5 VSENSE, 6 COMP, 7 GND, 8 PH

## TPS62162DGSD
designator *
footprint DSG8-1600X900TP (SON, 8-Leads, Body 2x2mm, Pitch 0.5mm, Thermal Pad 1.6x0.9mm, TI Recommended)
pins: 1 PGND, 2 VIN, 3 EN, 4 AGND, 5 FB, 6 VOS, 7 SW, 8 PG, 9 GND/THERMAL

## TPS62162SOP
designator *
footprint TPS62162SOP (SOP 8 pin package)
pins: 1 PGND, 2 VIN, 3 EN, 4 AGND, 5 FB, 6 VOS, 7 SW, 8 PG

## TPSMT
designator TP?  (value not drawn)
Test Point Surface Mount; LastRevisionNote: ImportComponents; Published: 23-Apr-2014; Publisher: UltiMachine; LastRevisionDate: 23-Apr-2014
footprint B1,27
pins: TP

## USB-B
designator X?
USB connector B PTH; LastRevisionNote: ImportComponents; Published: 23-Apr-2014; Publisher: UltiMachine; LastRevisionDate: 23-Apr-2014
footprint PN61729
pins: 1, 2, 3, 4, P$1, P$2

## USB_A
designator *
footprint USB-A-S-X-X-SM1
pins: 1, 2, 3, 4, 5 GND, 6 GND, 7 GND, 8 GND
text: USB Type A

## V28A12M200B
designator Vicor 12V Converter ?
V28A12M200B 12V DC/DC Converter
footprint Vicor Maxi DC DC Converter
pins: 1 +IN, 2 PC, 3 PR, 4 -IN, 5 -OUT, 6 -S, 7 SC, 8 +S, 9 +OUT, 10 GND, 11 GND, 12 GND, 13 GND, 14 GND, 15 GND

## VAOS-SP4RGB4
designator *
footprint VAOS-SP4RGB4
pins: 1 Red, 2 Green, 3 Blue, 4 GND

## Varistor
designator RV?
Varistor; LastRevisionNote: ImportComponents; Published: 23-Apr-2014; Publisher: UltiMachine; LastRevisionDate: 23-Apr-2014
footprint R0402
footprint R0603
footprint R1206
signal-integrity model Model Name (Model Description)
simulation model Model Name (Model Description)
pins: 1, 2

## VNH5019A-E
designator U?
VNH5019A-E H-Bridge
footprint VNH5019A-E (STMicroelectronics VNH5019A-E H-Bridge)
pins: 1 OUTA, 2 NC, 3 VCC, 4 INA, 5 ENA/DIAGA, 6 CS_DIS, 7 PWM, 8 CS, 9 ENB/DIAGB, 10 INB, 11 CP, 12 VBAT, 13 VCC, 14 NC, 15 OUTB, 16 OUTB, 17 NC, 18 GNDB, 19 GNDB, 20 GNDB, 21 OUTB, 22 NC, 23 VCC, 24 NC, 25 OUTA, 26 GNDA, 27 GNDA, 28 GNDA, 29 NC, 30 OUTA, 31 VCC/HEATSLG1, 32 OUTB/HEATSLG3, 33 OUTA/HEATSLG2, 34 VCC, 35 OUTA, 36 OUTB

## WM8778
designator U?
footprint WM8778 (SOP, 28 Pin Wolfson Audio WM8778 Audio Codec)
pins: 1 AINL, 2 ZFLAGR, 3 ZFLAGL, 4 DACBLK, 5 DACMCLK, 6 DIN, 7 DACLRC, 8 ADCBCLK, 9 ADCMCLK, 10 DOUT, 11 ADCLRC, 12 DGND, 13 DVDD, 14 MODE, 15 CE/I2S, 16 DI/DEEMPH, 17 CL/IWL, 18 VOUTL, 19 VOUTR, 20 VMIDDAC, 21 DACREFN, 22 DACREFP, 23 VMIDADC, 24 ADCREFGND, 25 ADCREFP, 26 AVDD, 27 AGND, 28 AINR

## ZENER-DIODE
designator D?
Z-Diode; LastRevisionNote: ImportComponents; Published: 23-Apr-2014; Publisher: UltiMachine; LastRevisionDate: 23-Apr-2014
footprint SOD323-R
pins: A, C